# Altium footprint library 4.10-GH1.25连接器.PcbLib: 4 footprints
Each footprint in its own frame and in the unit in brackets; x right, y up, seen from the top. Pads: shape width x height; smd on the part's side, far side on the other; paste and mask are expansions set on the pad; w line width, h text height; cw(c..) or ccw(c..) is an arc to the next point about the centre after c.
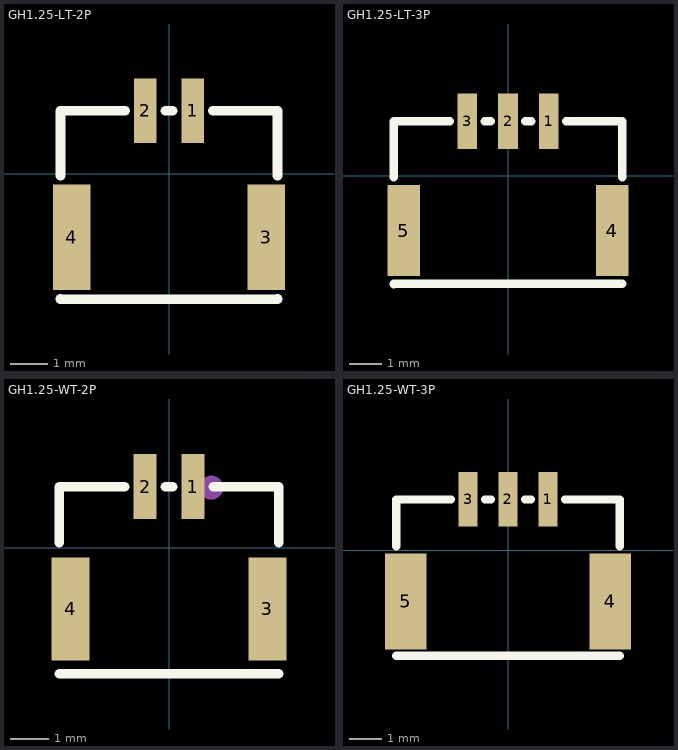
[diagram p0: the footprints below, top view; thin cyan lines are the x and y axes]

## GH1.25-LT-2P [mm] "GH1.25 2P 立贴插座                   联系卖家 免费查找封装"
pads (4):
  rect 0.6x1.7 smd: 1(0.625,1.675) 2(-0.625,1.675)
  rect 1x2.8 smd: 3(2.575,-1.675) 4(-2.575,-1.675)
Top Overlay:
  lines w0.254: -2.875,-3.306 -2.875,-3.325 2.875,-3.325 2.875,-3.306 ; -2.875,-0.044 -2.875,1.675 -1.156,1.675 ; -0.094,1.675 0.094,1.675 ; 1.156,1.675 2.875,1.675 2.875,-0.044
3D body: height 4.06, standoff 0, extent -2.875,-2.884 2.875,2.076

## GH1.25-LT-3P [mm] "GH1.25 3P 立贴插座                   联系卖家 免费查找封装"
pads (5):
  rect 0.6x1.7 smd: 1(1.25,1.675) 2(0,1.675) 3(-1.25,1.675)
  rect 1x2.8 smd: 4(3.2,-1.675) 5(-3.2,-1.675)
Top Overlay:
  lines w0.254: -3.5,-3.325 -3.5,-3.306 3.5,-3.306 ; -3.5,-0.044 -3.5,1.675 -1.781,1.675 ; -0.719,1.675 -0.531,1.675 ; 0.531,1.675 0.719,1.675 ; 1.781,1.675 3.5,1.675 3.5,-0.044
3D body: height 4.06, standoff 0, extent -3.5,-2.881 3.5,2.079

## GH1.25-WT-2P [mm] "GH1.25 2P 卧贴插座                   联系卖家 免费查找封装"
pads (4):
  rect 0.6x1.7 smd: 1(0.625,1.6) 2(-0.625,1.6)
  rect 1x2.7 smd: 3(2.575,-1.6) 4(-2.575,-1.6)
Top Overlay:
  lines w0.254: -2.875,-3.3 2.875,-3.3 ; -2.875,0.131 -2.875,1.6 -1.156,1.6 ; -0.094,1.6 0.094,1.6 ; 1.156,1.6 2.875,1.6 2.875,0.131
Mechanical 15:
  circle w0.254: c1.105,1.574 r0.187
3D body: height 4.26, standoff 0, extent -2.874,-2.856 2.875,2.003

## GH1.25-WT-3P [mm] "GH1.25 2P 卧贴插座                   联系卖家 免费查找封装"
pads (5):
  rect 0.6x1.7 smd: 1(1.25,1.6) 2(0,1.6) 3(-1.25,1.6)
  rect 1.3x3 smd: 4(3.2,-1.6) 5(-3.2,-1.6)
Top Overlay:
  lines w0.254: -3.5,-3.3 3.5,-3.3 ; -3.5,0.131 -3.5,1.6 -1.781,1.6 ; -0.719,1.6 -0.531,1.6 ; 0.531,1.6 0.719,1.6 ; 1.78,1.6 3.5,1.6 3.5,0.131
3D body: height 4.26, standoff 0, extent -3.499,-2.856 3.499,2.003